# EAGLE library part MOTION-PIR-HC-SR501 (library domus-silicea)
PIR Motion Sensor Module HC-SR501 with low power pyroelectic detector
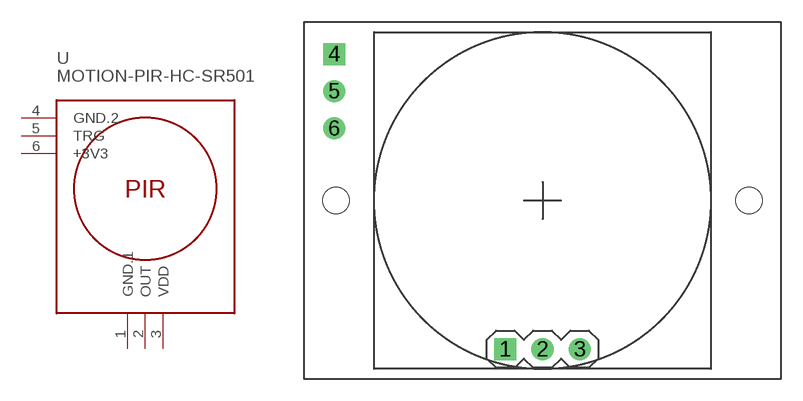
[diagram p0: symbol with the pads of MOTION-PIR-HC-SR501; footprint MOTION-PIR-HC-SR501]

Designator prefix -

## MOTION-PIR-HC-SR501  [MOTION-PIR-HC-SR501]
1  GND.1  pwr
2  OUT  out
3  VDD  pwr
4  GND.2  pwr
5  TRG  in
6  +3V3  pwr

## Footprint MOTION-PIR-HC-SR501 (pad centres in mm)
PIR Motion Sensor Module HC-SR501 with low power pyroelectic detector
drill 1 square: 1 -2.54,-10.16; 4 -14.224,10
drill 1: 2 0,-10.16; 3 2.54,-10.16; 5 -14.224,7.46; 6 -14.224,4.92
hole 1.8 at -14.1,0
hole 1.8 at 14.1,0